# Altium footprint library Tantalum Capacitors.PcbLib: 3 footprints
Each footprint in its own frame and in the unit in brackets; x right, y up, seen from the top. Pads: shape width x height; smd on the part's side, far side on the other; paste and mask are expansions set on the pad; w line width, h text height; cw(c..) or ccw(c..) is an arc to the next point about the centre after c.
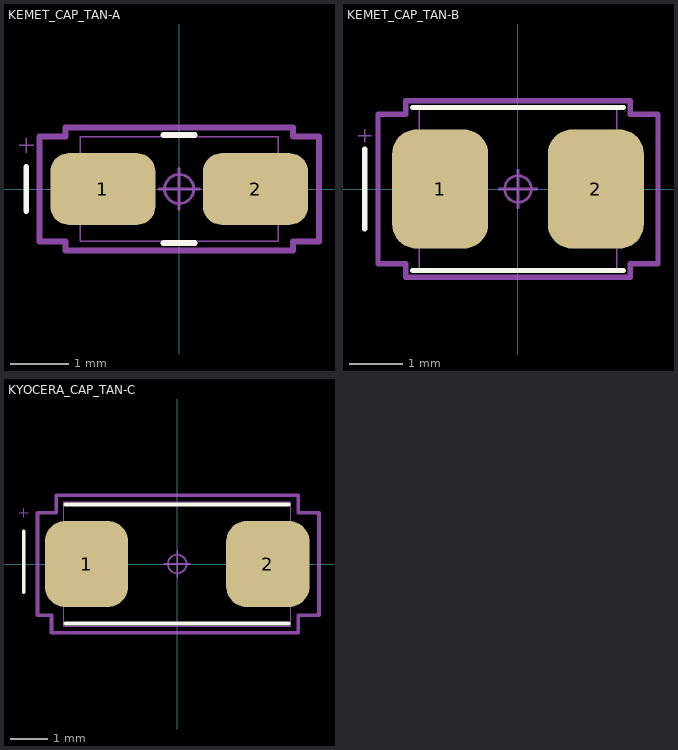
[diagram p0: the footprints below, top view; thin cyan lines are the x and y axes]

## KEMET_CAP_TAN-A [mm]
pads (2):
  rrect50% 1.8x1.23 smd mask+0.04: 1(-1.31,0) 2(1.31,0)
Top Overlay:
  lines w0.1: -2.625,-0.375 -2.625,0.375 ; -0.267,-0.927 0.267,-0.927 ; -0.267,0.927 0.267,0.927
Mechanical 13:
  lines w0.025: -2.75,0.75 -2.5,0.75 ; -2.625,0.625 -2.625,0.875 ; -1.7,-0.6 -0.75,-0.6 -0.75,0.6 -1.7,0.6 ; 1.7,-0.6 0.75,-0.6 0.75,0.6 1.7,0.6 ; -1.7,-0.9 1.7,-0.9 1.7,0.9 -1.7,0.9 -1.7,-0.9
Mechanical 15:
  circle w0.05: c0,0 r0.25
  lines w0.05: -0.35,0 0.35,0 ; 0,-0.35 0,0.35
  lines w0.1: -2.4,-0.904 -1.954,-0.904 -1.954,-1.054 1.954,-1.054 1.954,-0.904 2.4,-0.904 2.4,0.904 1.954,0.904 1.954,1.054 -1.954,1.054 -1.954,0.904 -2.4,0.904 -2.4,-0.904
3D body "CTSM_TCM2NK_3216_L3.4W1.8H1.8T0.13S0.8F1.3A1.2B0.55E1.3G1.1P0.4R0.4X0.2.step": height 1.81, standoff 0, extent -1.7,-0.9 1.7,0.9

## KEMET_CAP_TAN-B [mm]
pads (2):
  rrect50% 1.8x2.23 smd paste+0 mask+0.04: 1(-1.46,0) 2(1.46,0)
Top Overlay:
  lines w0.1: -2.875,-0.75 -2.875,0.75 ; -1.977,-1.527 1.977,-1.527 ; -1.977,1.527 1.977,1.527
Mechanical 13:
  lines w0.025: -3,1 -2.75,1 ; -2.875,0.875 -2.875,1.125 ; -1.85,-1 -0.875,-1 -0.875,1 -1.85,1 ; 1.85,-1 0.875,-1 0.875,1 1.85,1 ; -1.85,-1.525 1.85,-1.525 1.85,1.525 -1.85,1.525 -1.85,-1.525
Mechanical 15:
  circle w0.05: c0,0 r0.25
  lines w0.05: -0.35,0 0.35,0 ; 0,-0.35 0,0.35
  lines w0.1: -2.625,-1.404 -2.625,1.404 -2.104,1.404 -2.104,1.654 2.104,1.654 2.104,1.404 2.625,1.404 2.625,-1.404 2.104,-1.404 2.104,-1.654 -2.104,-1.654 -2.104,-1.404 -2.625,-1.404
3D body "T495B106K025ATE750.step": height 2.1, standoff 0, extent -1.85,-1.5 1.85,1.5

## KYOCERA_CAP_TAN-C [mm]
pads (2):
  rrect50% 2.24x2.32 smd mask+0.04: 1(-2.435,0) 2(2.435,0)
Top Overlay:
  lines w0.1: -4.125,-0.75 -4.125,0.875 ; -3,-1.6 3,-1.6 ; -3,1.6 3,1.6
Mechanical 13:
  lines w0.025: -4.25,1.375 -4,1.375 ; -4.125,1.25 -4.125,1.5 ; -3.05,-1.675 3.05,-1.675 3.05,1.675 -3.05,1.675 -3.05,-1.675
Mechanical 15:
  circle w0.05: c0,0 r0.25
  lines w0.05: -0.35,0 0.35,0 ; 0,-0.35 0,0.35
  lines w0.1: -3.75,-1.375 -3.75,1.375 -3.25,1.375 -3.25,1.85 3.25,1.85 3.25,1.375 3.81,1.375 3.81,-1.375 3.25,-1.375 3.25,-1.85 -3.375,-1.85 -3.375,-1.375 -3.75,-1.375
3D body "User Library-C_case.STEP": height 2.7, standoff 0, extent -3.05,-1.675 3.05,1.675